# EAGLE library part 39-28-1243 (library 39-28-1243)
24 way vertical PCB header,Mini-Fit Jr Molex MINI-FIT JR. Series, Series Number 5566, 4.2mm Pitch 24 Way 2 Row Straight PCB Header, Solder Termination, 6A Source: Datasheet <https://www.molex.com/pdm_docs/sd/039281023_sd.pdf>
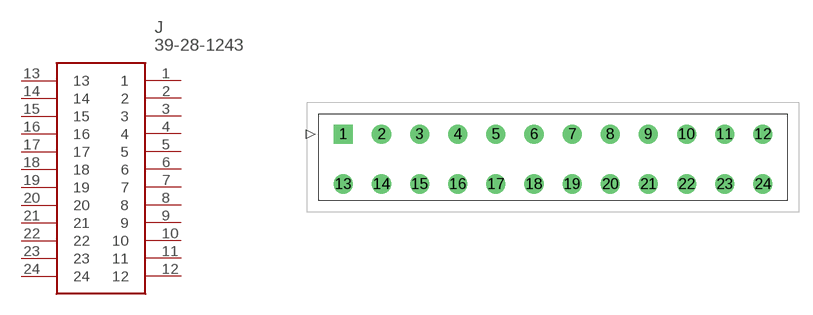
[diagram p0: symbol with the pads of 39-28-1243; footprint 39-28-1243]

Designator prefix J

## 39-28-1243 (Description: 24 way vertical PCB header,Mini-Fit Jr Molex MINI-FIT JR. Series, Series Number 5566, 4.2mm Pitch 24 Way 2 Row Straight PCB Header, Solder Termination, 6A; Height: 12.8mm; Manufacturer_Name: Molex; Manufacturer_Part_Number: 39-28-1243; Mouser_Part_Number: 538-39-28-1243; Mouser_Price-Stock: https://www.mouser.co.uk/ProductDetail/Molex/39-28-1243?qs=4XSMV6Twtb0I%2F4%252BTTSJFbg%3D%3D)  [39-28-1243]
1  1
2  2
3  3
4  4
5  5
6  6
7  7
8  8
9  9
10  10
11  11
12  12
13  13
14  14
15  15
16  16
17  17
18  18
19  19
20  20
21  21
22  22
23  23
24  24

## Footprint 39-28-1243 (pad centres in mm)
39-28-1243
drill 1.4 pad 1.75 square: 1 0,0
drill 1.4 pad 1.75: 2 4.2,0; 3 8.4,0; 4 12.6,0; 5 16.8,0; 6 21,0; 7 25.2,0; 8 29.4,0; 9 33.6,0; 10 37.8,0; 11 42,0; 12 46.2,0; 13 0,-5.5; 14 4.2,-5.5; 15 8.4,-5.5; 16 12.6,-5.5; 17 16.8,-5.5; 18 21,-5.5; 19 25.2,-5.5; 20 29.4,-5.5; 21 33.6,-5.5; 22 37.8,-5.5; 23 42,-5.5; 24 46.2,-5.5